# EAGLE library part 72ET- (library inductor-neosid)
FILTER dual helix bandpass filter with tab, type E
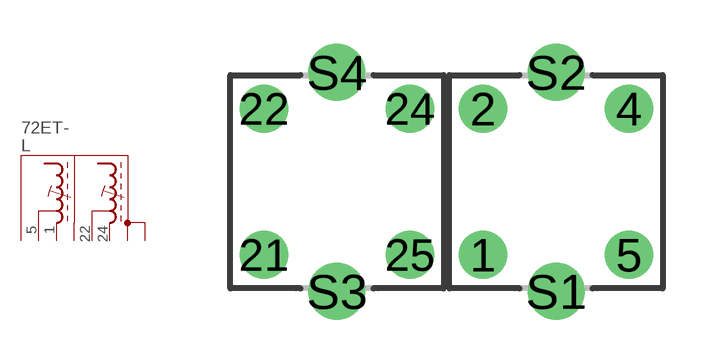
[diagram p20: symbol with the pads of 71EX2; footprint 71EX2]

Designator prefix L

## 72ET-512224 (OC_FARNELL: unknown; OC_NEWARK: unknown)  [71EX2]
1  GND1  pas
5  IN  pas
22  OUT  pas
24  GND2  pas
S1  S1  pas
S2  S2  pas
S3  S3  pas
S4  S4  pas

## 72ET-522225 (OC_FARNELL: unknown; OC_NEWARK: unknown)  [71EX2]
2  GND1  pas
5  IN  pas
22  OUT  pas
25  GND2  pas
S1  S1  pas
S2  S2  pas
S3  S3  pas
S4  S4  pas

## 72ET-422122 (OC_FARNELL: unknown; OC_NEWARK: unknown)  [71EX2]
2  GND1  pas
4  IN  pas
21  OUT  pas
22  GND2  pas
S1  S1  pas
S2  S2  pas
S3  S3  pas
S4  S4  pas

## 72ET-452122 (OC_FARNELL: unknown; OC_NEWARK: unknown)  [71EX2]
4  IN  pas
5  GND1  pas
21  OUT  pas
22  GND2  pas
S1  S1  pas
S2  S2  pas
S3  S3  pas
S4  S4  pas

## 72ET-542122 (OC_FARNELL: unknown; OC_NEWARK: unknown)  [71EX2]
4  GND1  pas
5  IN  pas
21  OUT  pas
22  GND2  pas
S1  S1  pas
S2  S2  pas
S3  S3  pas
S4  S4  pas

## 72ET-512122 (OC_FARNELL: unknown; OC_NEWARK: unknown)  [71EX2]
1  GND1  pas
5  IN  pas
21  OUT  pas
22  GND2  pas
S1  S1  pas
S2  S2  pas
S3  S3  pas
S4  S4  pas

## Footprint 71EX2 (pad centres in mm)
DUAL RF COIL ASSEMBLY 1 winding, 4 pads, grid 2.5 mm
drill 1.1: 1 1.25,-2.5; 2 1.25,2.5; 4 6.25,2.5; 5 6.25,-2.5; 21 -6.25,-2.5; 22 -6.25,2.5; 24 -1.25,2.5; 25 -1.25,-2.5
drill 1.3: S1 3.75,-3.75; S2 3.75,3.75; S3 -3.75,-3.75; S4 -3.75,3.75